# Altium footprint library Pollux III.PcbLib: 36 footprints (part 1 of 3)
Each footprint in its own frame and in the unit in brackets; x right, y up, seen from the top. Pads: shape width x height; smd on the part's side, far side on the other; paste and mask are expansions set on the pad; w line width, h text height; cw(c..) or ccw(c..) is an arc to the next point about the centre after c.
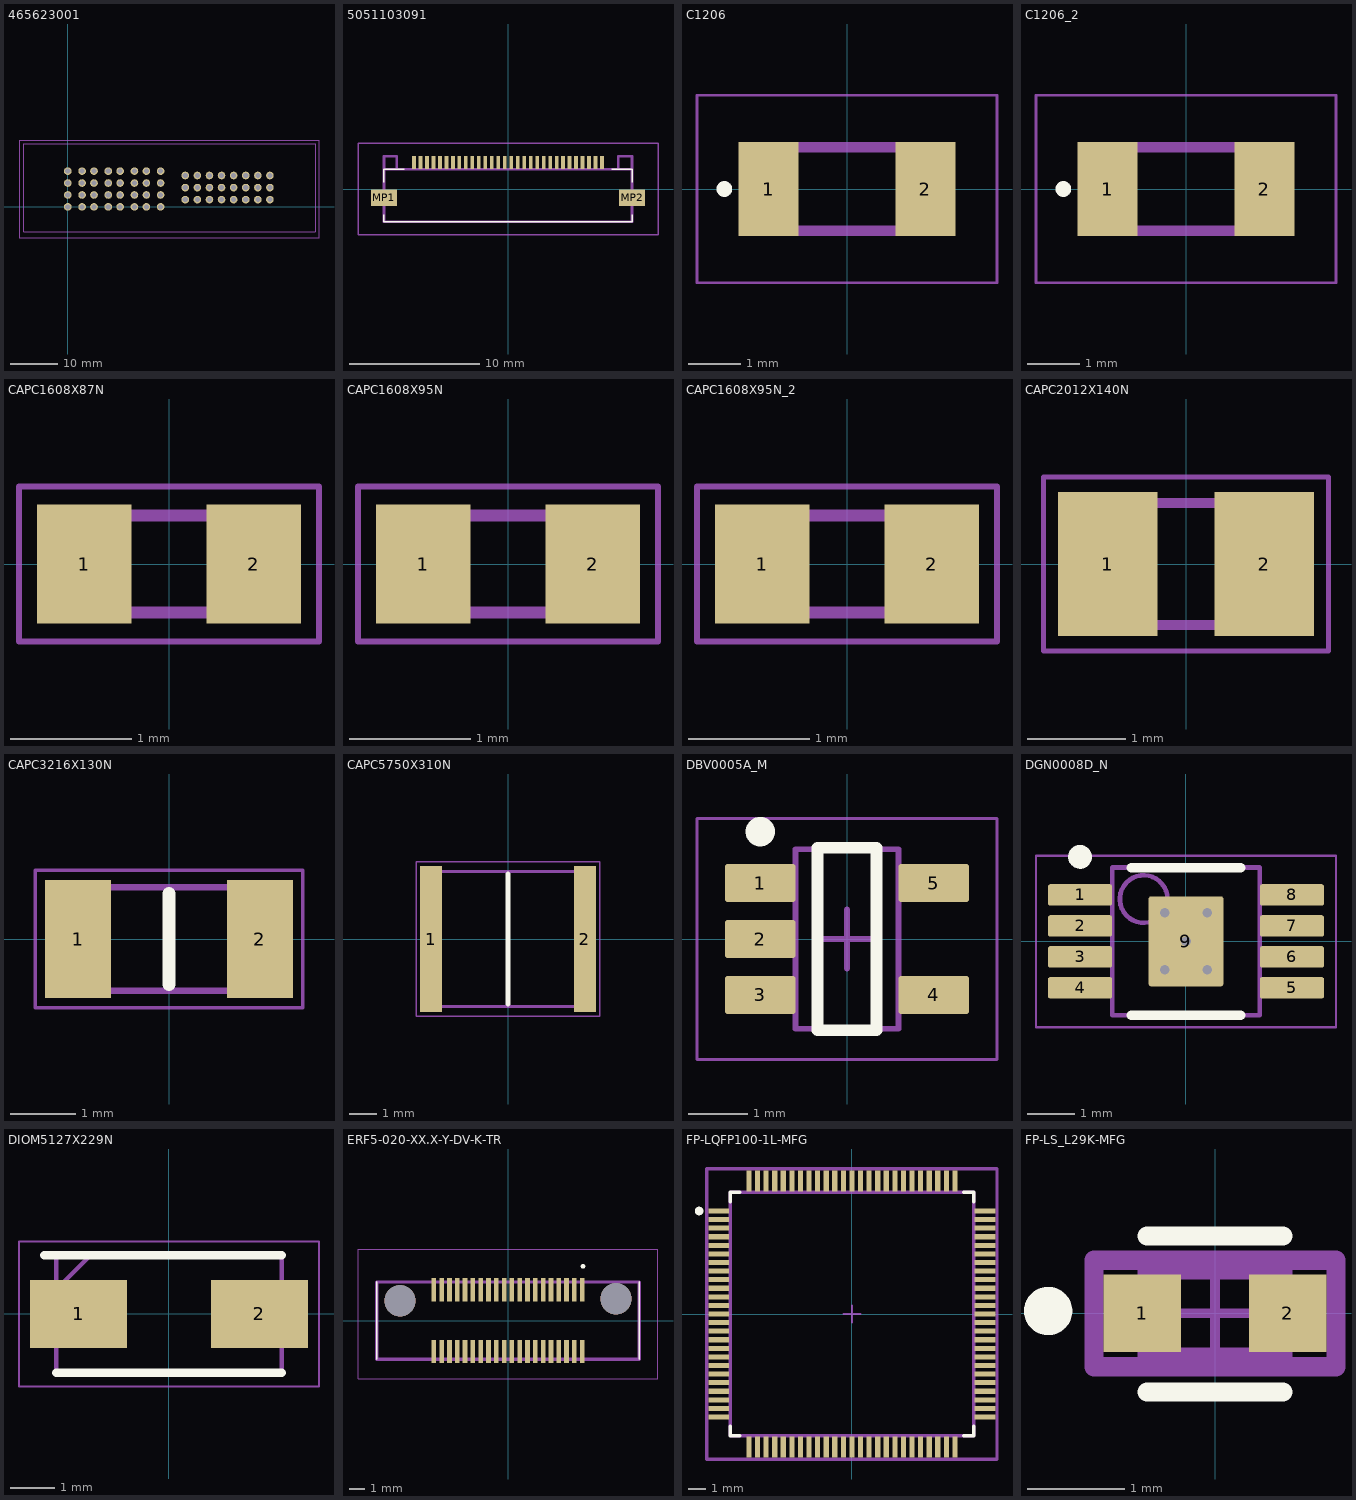
[diagram p0: the footprints below, top view; thin cyan lines are the x and y axes]

## 465623001 [mm]
pads (56):
  round 1.605 hole 1.07: P1(0,0) P1(0,2.5) P1(0,5) P1(0,7.5) P1(3,0) P1(3,2.5) P1(3,5) P1(3,7.5) P2(5.5,0) P2(5.5,2.5) P2(5.5,5) P2(5.5,7.5) P2(8.5,0) P2(8.5,2.5) P2(8.5,5) P2(8.5,7.5) P3(11,0) P3(11,2.5) P3(11,5) P3(11,7.5) P3(14,0) P3(14,2.5) P3(14,5) P3(14,7.5) P4(16.5,0) P4(16.5,2.5) P4(16.5,5) P4(16.5,7.5) P4(19.5,0) P4(19.5,2.5) P4(19.5,5) P4(19.5,7.5) S1(24.68,6.59) S2(27.22,6.59) S3(29.76,6.59) S4(32.3,6.59) S5(34.84,6.59) S6(37.38,6.59) S7(39.92,6.59) S8(42.46,6.59) S9(24.68,4.05) S10(27.22,4.05) S11(29.76,4.05) S12(32.3,4.05) S13(34.84,4.05) S14(37.38,4.05) S15(39.92,4.05) S16(42.46,4.05) S17(24.68,1.51) S18(27.22,1.51) S19(29.76,1.51) S20(32.3,1.51) S21(34.84,1.51) S22(37.38,1.51) S23(39.92,1.51) S24(42.46,1.51)
Mechanical 13:
  lines w0.2: -9.25,-5.2 -9.25,13.3 52,13.3 52,-5.2 -9.25,-5.2
Mechanical 15:
  lines w0.1: -10.25,-6.5 52.772,-6.5 52.772,14 -10.25,14 -10.25,-6.5
3D body "465623001.stp": height 14.21, standoff -3.44, extent -9,-5 51.76,13

## 5051103091 [mm]
pads (32):
  rect 0.3x1 smd: 1(-7.25,2.025) 2(-6.75,2.025) 3(-6.25,2.025) 4(-5.75,2.025) 5(-5.25,2.025) 6(-4.75,2.025) 7(-4.25,2.025) 8(-3.75,2.025) 9(-3.25,2.025) 10(-2.75,2.025) 11(-2.25,2.025) 12(-1.75,2.025) 13(-1.25,2.025) 14(-0.75,2.025) 15(-0.25,2.025) 16(0.25,2.025) 17(0.75,2.025) 18(1.25,2.025) 19(1.75,2.025) 20(2.25,2.025) 21(2.75,2.025) 22(3.25,2.025) 23(3.75,2.025) 24(4.25,2.025) 25(4.75,2.025) 26(5.25,2.025) 27(5.75,2.025) 28(6.25,2.025) 29(6.75,2.025) 30(7.25,2.025)
  rect 2x1.3 smd: MP1(-9.55,-0.675) MP2(9.55,-0.675)
Top Overlay:
  lines w0.1: -9.55,-1.975 -9.55,-2.475 -9.55,-2.525 9.55,-2.525 9.55,-1.975 ; -9.55,0.525 -9.55,1.525 -9.5,1.525 -8,1.525 ; 8,1.525 9.55,1.525 9.55,0.525
Mechanical 13:
  lines w0.2: -8.553,1.525 -8.553,2.525 -9.55,2.525 -9.55,1.525 ; 8.5,1.525 8.5,2.525 9.55,2.525 9.55,1.525 ; -9.55,1.525 9.55,1.525 ; -9.55,1.525 -9.55,-2.525 9.55,-2.525 9.55,1.525
Mechanical 15:
  lines w0.1: -11.55,-3.525 11.55,-3.525 11.55,3.525 -11.55,3.525 -11.55,-3.525
3D body "505110-3091.stp": height 1.9, standoff 0, extent -10.25,-3.02 10.25,2.28

## C1206 [mm]
pads (2):
  rect 1.15x1.8 smd: 1(-1.5,0) 2(1.5,0)
Top Overlay:
  circle w0.2: c-2.35,0 r0.05
Mechanical 13:
  lines w0.2: -1.6,-0.8 -1.6,0.8 1.6,0.8 1.6,-0.8 -1.6,-0.8
Mechanical 15:
  lines w0.05: -2.875,-1.8 -2.875,1.8 2.875,1.8 2.875,-1.8 -2.875,-1.8
3D body "C1206C106K4RACTU.stp": height 1.8, standoff 0, extent -1.695,-0.899 1.705,0.901

## C1206_2 [mm]
pads (2):
  rect 1.15x1.8 smd: 1(-1.5,0) 2(1.5,0)
Top Overlay:
  circle w0.2: c-2.35,0 r0.05
Mechanical 13:
  lines w0.2: -1.6,-0.8 -1.6,0.8 1.6,0.8 1.6,-0.8 -1.6,-0.8
Mechanical 15:
  lines w0.05: -2.875,-1.8 -2.875,1.8 2.875,1.8 2.875,-1.8 -2.875,-1.8
3D body "C1206C106K4RACTU.stp": height 1.8, standoff 0, extent -1.695,-0.899 1.705,0.901

## CAPC1608X87N [mm]
pads (2):
  rect 0.78x0.98 smd: 1(-0.7,0) 2(0.7,0)
Mechanical 13:
  lines w0.1: -0.8,-0.4 0.8,-0.4 0.8,0.4 -0.8,0.4 -0.8,-0.4
Mechanical 15:
  lines w0.05: -1.24,-0.64 1.24,-0.64 1.24,0.64 -1.24,0.64 -1.24,-0.64
3D body "C0603C101J5RACTU.stp": height 0.87, standoff 0, extent -0.8,-0.4 0.8,0.4

## CAPC1608X95N [mm]
pads (2):
  rect 0.78x0.98 smd: 1(-0.7,0) 2(0.7,0)
Mechanical 13:
  lines w0.1: -0.8,-0.4 -0.8,0.4 0.8,0.4 0.8,-0.4 -0.8,-0.4
Mechanical 15:
  lines w0.05: -1.24,-0.64 -1.24,0.64 1.24,0.64 1.24,-0.64 -1.24,-0.64
3D body "C0603C104M4RACTU.stp": height 0.95, standoff 0, extent -0.8,-0.4 0.8,0.4

## CAPC1608X95N_2 [mm]
pads (2):
  rect 0.78x0.98 smd: 1(-0.7,0) 2(0.7,0)
Mechanical 13:
  lines w0.1: -0.8,-0.4 0.8,-0.4 0.8,0.4 -0.8,0.4 -0.8,-0.4
Mechanical 15:
  lines w0.05: -1.24,-0.64 1.24,-0.64 1.24,0.64 -1.24,0.64 -1.24,-0.64
3D body "C0603C104M4RACTU.stp": height 0.95, standoff 0, extent -0.8,-0.4 0.8,0.4

## CAPC2012X140N [mm]
pads (2):
  rect 1.02x1.47 smd: 1(-0.8,0) 2(0.8,0)
Mechanical 13:
  lines w0.1: -1,-0.625 -1,0.625 1,0.625 1,-0.625 -1,-0.625
Mechanical 15:
  lines w0.05: -1.46,-0.89 -1.46,0.89 1.46,0.89 1.46,-0.89 -1.46,-0.89
3D body "C0805C475J4RACAUTO.stp": height 1.4, standoff 0, extent -1,-0.625 1,0.625

## CAPC3216X130N [mm]
pads (2):
  rect 1.02x1.82 smd: 1(-1.4,0) 2(1.4,0)
Top Overlay:
  lines w0.2: 0,-0.7 0,0.7
Mechanical 13:
  lines w0.1: -1.6,-0.8 -1.6,0.8 1.6,0.8 1.6,-0.8 -1.6,-0.8
Mechanical 15:
  lines w0.05: -2.06,-1.06 -2.06,1.06 2.06,1.06 2.06,-1.06 -2.06,-1.06
3D body "C1206C105M5RECTU.stp": height 1.3, standoff 0, extent -1.6,-0.8 1.6,0.8

## CAPC5750X310N [mm]
pads (2):
  rect 0.81x5.41 smd: 1(-2.85,0) 2(2.85,0)
Top Overlay:
  lines w0.2: 0,-2.4 0,2.4
Mechanical 13:
  lines w0.1: -2.85,-2.5 2.85,-2.5 2.85,2.5 -2.85,2.5 -2.85,-2.5
Mechanical 15:
  lines w0.05: -3.405,-2.86 3.405,-2.86 3.405,2.86 -3.405,2.86 -3.405,-2.86
3D body "C5750X7S2A106K230KB.stp": height 3.07, standoff 0.03, extent -2.65,-2.45 2.65,2.45

## DBV0005A_M [mm] "SOT23, 5-Leads, Body 3.05x1.75mm, Pitch 0.95mm, IPC Low Density"
height 1.45
pads (5):
  rrect15% 1.2x0.65 smd: 1(-1.475,0.95) 2(-1.475,0) 3(-1.475,-0.95) 4(1.475,-0.95) 5(1.475,0.95)
Top Overlay:
  circle w0.25: c-1.475,1.825 r0.125
  lines w0.2: -0.5,-1.55 -0.5,1.55 0.5,1.55 0.5,-1.55 -0.5,-1.55
Mechanical 1:
  text ".Designator" at -0.635,-0.127 h0.4
Mechanical 13:
  lines w0.1: -0.875,-1.525 0.875,-1.525 0.875,1.525 -0.875,1.525 -0.875,-1.525
Mechanical 15:
  lines w0.05: -2.55,-2.05 2.55,-2.05 2.55,2.05 -2.55,2.05 -2.55,-2.05
  lines w0.1: -0.5,0 0.5,0 ; 0,-0.5 0,0.5
3D body "DBV0005AaksMF05A.stp": height 1.08, standoff -0.01, extent -1.422,-1.461 1.422,1.46

## DGN0008D_N [mm] "TSOP, 8-Leads, Body 3.1x3.1mm, Pitch 0.65mm, Thermal Pad 1.89x1.57mm, IPC Medium Density"
height 1.1
pads (9):
  rrect22% 1.35x0.45 smd: 1(-2.225,0.975) 2(-2.225,0.325) 3(-2.225,-0.325) 4(-2.225,-0.975) 5(2.225,-0.975) 6(2.225,-0.325) 7(2.225,0.325) 8(2.225,0.975)
  rrect6% 1.57x1.89 smd: 9(0,0)
via 0,0 diameter 0.5 hole 0.2
via 0.45,0.6 diameter 0.5 hole 0.2
via 0.45,-0.6 diameter 0.5 hole 0.2
via -0.45,-0.6 diameter 0.5 hole 0.2
via -0.45,0.6 diameter 0.5 hole 0.2
Top Overlay:
  circle w0.25: c-2.225,1.775 r0.125
  lines w0.2: -1.15,-1.55 1.15,-1.55 ; -1.15,1.55 1.15,1.55
Mechanical 1:
  text ".Designator" at -1.397,-0.254 h0.7
Mechanical 13:
  circle w0.1: c-0.889,0.889 r0.5
  lines w0.1: -1.55,-1.55 -1.55,1.55 1.55,1.55 1.55,-1.55 -1.55,-1.55
Mechanical 15:
  lines w0.05: -3.15,-1.8 -3.15,1.8 3.15,1.8 3.15,-1.8 -3.15,-1.8
  lines w0.1: -0.5,0 0.5,0 ; 0,-0.5 0,0.5
3D body "MUY08A_ASM.stp": height 0.94, standoff -0.02, extent -2.451,-1.499 2.451,1.499

## DIOM5127X229N [mm]
pads (2):
  rect 2.2x1.55 smd: 1(-2.05,0) 2(2.05,0)
Top Overlay:
  lines w0.2: -2.825,1.332 2.552,1.332 ; -2.552,-1.332 2.552,-1.332
Mechanical 13:
  lines w0.1: -2.552,0.558 -1.778,1.332 ; -2.552,-1.332 -2.552,1.332 2.552,1.332 2.552,-1.332 -2.552,-1.332
Mechanical 15:
  lines w0.05: -3.4,-1.645 -3.4,1.645 3.4,1.645 3.4,-1.645 -3.4,-1.645
3D body "BZG03C33-HM3-08.stp": height 2.29, standoff 0, extent -2.552,-1.332 2.552,1.332

## ERF5-020-XX.X-Y-DV-K-TR [mm]
pads (42):
  rect 0.3x1.5 smd: 1(4.75,1.975) 2(4.75,-1.975) 3(4.25,1.975) 4(4.25,-1.975) 5(3.75,1.975) 6(3.75,-1.975) 7(3.25,1.975) 8(3.25,-1.975) 9(2.75,1.975) 10(2.75,-1.975) 11(2.25,1.975) 12(2.25,-1.975) 13(1.75,1.975) 14(1.75,-1.975) 15(1.25,1.975) 16(1.25,-1.975) 17(0.75,1.975) 18(0.75,-1.975) 19(0.25,1.975) 20(0.25,-1.975) 21(-0.25,1.975) 22(-0.25,-1.975) 23(-0.75,1.975) 24(-0.75,-1.975) 25(-1.25,1.975) 26(-1.25,-1.975) 27(-1.75,1.975) 28(-1.75,-1.975) 29(-2.25,1.975) 30(-2.25,-1.975) 31(-2.75,1.975) 32(-2.75,-1.975) 33(-3.25,1.975) 34(-3.25,-1.975) 35(-3.75,1.975) 36(-3.75,-1.975) 37(-4.25,1.975) 38(-4.25,-1.975) 39(-4.75,1.975) 40(-4.75,-1.975)
  round 2 hole 2: ""(-6.909,1.27) ""(6.909,1.397)
Top Overlay:
  circle w0.2: c4.8,3.475 r0.05
  lines w0.1: -8.4,-2.475 -8.4,2.475 ; 8.4,-2.475 8.4,2.475
Mechanical 13:
  lines w0.2: -8.4,-2.475 8.4,-2.475 8.4,2.475 -8.4,2.475 -8.4,-2.475
Mechanical 15:
  lines w0.05: -9.6,-3.725 9.6,-3.725 9.6,4.575 -9.6,4.575 -9.6,-3.725
3D body "ERF5-020-05.0-L-DV-K-TR.stp": height 4.85, standoff -1.27, extent -8.4,-3.025 8.4,2.975

## FP-LQFP100-1L-MFG [mm]
pads (100):
  rect 1.2x0.3 smd paste+0 mask+0: 1(-7.75,6) 2(-7.75,5.5) 3(-7.75,5) 4(-7.75,4.5) 5(-7.75,4) 6(-7.75,3.5) 7(-7.75,3) 8(-7.75,2.5) 9(-7.75,2) 10(-7.75,1.5) 11(-7.75,1) 12(-7.75,0.5) 13(-7.75,0) 14(-7.75,-0.5) 15(-7.75,-1) 16(-7.75,-1.5) 17(-7.75,-2) 18(-7.75,-2.5) 19(-7.75,-3) 20(-7.75,-3.5) 21(-7.75,-4) 22(-7.75,-4.5) 23(-7.75,-5) 24(-7.75,-5.5) 25(-7.75,-6) 51(7.75,-6) 52(7.75,-5.5) 53(7.75,-5) 54(7.75,-4.5) 55(7.75,-4) 56(7.75,-3.5) 57(7.75,-3) 58(7.75,-2.5) 59(7.75,-2) 60(7.75,-1.5) 61(7.75,-1) 62(7.75,-0.5) 63(7.75,0) 64(7.75,0.5) 65(7.75,1) 66(7.75,1.5) 67(7.75,2) 68(7.75,2.5) 69(7.75,3) 70(7.75,3.5) 71(7.75,4) 72(7.75,4.5) 73(7.75,5) 74(7.75,5.5) 75(7.75,6)
  rect 0.3x1.2 smd paste+0 mask+0: 26(-6,-7.75) 27(-5.5,-7.75) 28(-5,-7.75) 29(-4.5,-7.75) 30(-4,-7.75) 31(-3.5,-7.75) 32(-3,-7.75) 33(-2.5,-7.75) 34(-2,-7.75) 35(-1.5,-7.75) 36(-1,-7.75) 37(-0.5,-7.75) 38(0,-7.75) 39(0.5,-7.75) 40(1,-7.75) 41(1.5,-7.75) 42(2,-7.75) 43(2.5,-7.75) 44(3,-7.75) 45(3.5,-7.75) 46(4,-7.75) 47(4.5,-7.75) 48(5,-7.75) 49(5.5,-7.75) 50(6,-7.75) 76(6,7.75) 77(5.5,7.75) 78(5,7.75) 79(4.5,7.75) 80(4,7.75) 81(3.5,7.75) 82(3,7.75) 83(2.5,7.75) 84(2,7.75) 85(1.5,7.75) 86(1,7.75) 87(0.5,7.75) 88(0,7.75) 89(-0.5,7.75) 90(-1,7.75) 91(-1.5,7.75) 92(-2,7.75) 93(-2.5,7.75) 94(-3,7.75) 95(-3.5,7.75) 96(-4,7.75) 97(-4.5,7.75) 98(-5,7.75) 99(-5.5,7.75) 100(-6,7.75)
Top Overlay:
  circle w0.25: c-8.9,6 r0.125
  lines w0.2: -7.1,-6.525 -7.1,-7.1 -6.525,-7.1 ; -7.1,6.525 -7.1,7.1 -6.525,7.1 ; 6.525,-7.1 7.1,-7.1 7.1,-6.525 ; 6.525,7.1 7.1,7.1 7.1,6.525
Top 3D Body:
  lines w0.2: -7.1,-7.1 7.1,-7.1 7.1,7.1 -7.1,7.1 -7.1,-7.1
Top Courtyard:
  lines w0.2: -8.45,-8.45 8.45,-8.45 8.45,8.45 -8.45,8.45 -8.45,-8.45
Top Assembly:
  lines w0.2: -8.45,-8.45 8.45,-8.45 8.45,8.45 -8.45,8.45 -8.45,-8.45
  text ".Designator" at 0,-0.001 h1
Top Component Center:
  lines w0.1: -0.5,0 0.5,0 ; 0,-0.5 0,0.5
3D body "IC_STMicroelectronics_STM32H750VBT6_eec.STEP": height 0.25, standoff 0, extent -8.45,-8.45 8.45,8.45

## FP-LS_L29K-MFG [mm]
pads (2):
  rect 0.8x0.8 smd paste-1000 mask+0: 1(-0.75,0) 2(0.75,0)
Top Overlay:
  circle w0.25: c-1.725,0.025 r0.125
  lines w0.2: -0.7,-0.812 0.7,-0.812 ; -0.7,0.8 0.7,0.8
Top Paste:
  rectangle: 0.5,-0.35 1.1,0.35
  rectangle: -1.1,-0.35 -0.5,0.35
Top 3D Body:
  lines w0.2: -0.7,-0.45 -0.7,0.45 0.7,0.45 0.7,-0.45 -0.7,-0.45
Top Courtyard:
  lines w0.2: -1.25,-0.55 -1.25,0.55 1.25,0.55 1.25,-0.55 -1.25,-0.55
Top Assembly:
  lines w0.2: -1.25,-0.55 -1.25,0.55 1.25,0.55 1.25,-0.55 -1.25,-0.55
  text ".Designator" at 0,0.188 h1
Top Component Center:
  lines w0.1: -0.5,0 0.5,0 ; 0,-0.5 0,0.5
3D body "Diode_Osram_Opto_LS_L29K-G1J2-1-Z_eec.STEP": height 0.25, standoff 0, extent -1.25,-0.55 1.25,0.55